# Altium schematic symbol library C_smd.Schlib: 1 symbol
Pins are listed as number, name and electrical type; pins without a type are passive.

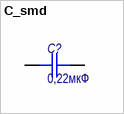
[diagram p0: symbol C_smd]

## C_smd
designator C?, comment 0,22мкФ
Конденсатор для поверхностного монтажа; Назначение: Чип-конденсатор; Наименование: К10-79 МП0 «ВП»; Потребление, Вт: 0; Value: 0,22мкФ
footprint CR-0402
footprint CR-0805
footprint CR-1206
footprint CR-1206-0805
footprint CR-0603
pins: 1, 2